# Altium footprint library STMicroelectronics Diode Power Schottky Low VF.PcbLib: 3 footprints
Each footprint in its own frame and in the unit in brackets; x right, y up, seen from the top. Pads: shape width x height; smd on the part's side, far side on the other; paste and mask are expansions set on the pad; w line width, h text height; cw(c..) or ccw(c..) is an arc to the next point about the centre after c.
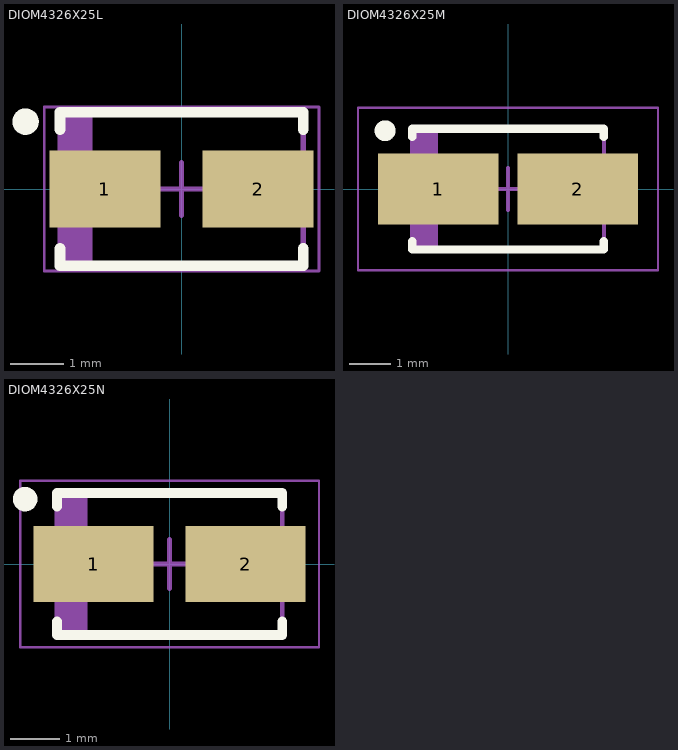
[diagram p0: the footprints below, top view; thin cyan lines are the x and y axes]

## DIOM4326X25L [mm] "Molded Diode, 2-Leads, Body 4.27x2.57mm, IPC High Density"
height 2.45
pads (2):
  rect 2.1x1.45 smd: 1(-1.45,0) 2(1.45,0)
Top Overlay:
  circle w0.25: c-2.95,1.275 r0.125
  lines w0.2: -2.3,-1.125 -2.3,-1.45 2.3,-1.45 2.3,-1.125 ; -2.3,1.125 -2.3,1.45 2.3,1.45 2.3,1.125
Mechanical 13:
  rectangle: -2.3,-1.45 -1.681,1.45
  lines w0.1: -2.3,-1.45 2.3,-1.45 2.3,1.45 -2.3,1.45 -2.3,-1.45
Mechanical 15:
  lines w0.05: -2.6,-1.55 2.6,-1.55 2.6,1.55 -2.6,1.55 -2.6,-1.55
  lines w0.1: -0.5,0 0.5,0 ; 0,-0.5 0,0.5
3D body: height 2.45, standoff 0, extent -2.3,-1.45 2.3,1.45

## DIOM4326X25M [mm] "Molded Diode, 2-Leads, Body 4.27x2.57mm, IPC Low Density"
height 2.45
pads (2):
  rect 2.9x1.7 smd: 1(-1.675,0) 2(1.675,0)
Top Overlay:
  circle w0.25: c-2.95,1.4 r0.125
  lines w0.2: -2.3,-1.25 -2.3,-1.45 2.3,-1.45 2.3,-1.25 ; -2.3,1.25 -2.3,1.45 2.3,1.45 2.3,1.25
Mechanical 13:
  rectangle: -2.3,-1.45 -1.681,1.45
  lines w0.1: -2.3,-1.45 2.3,-1.45 2.3,1.45 -2.3,1.45 -2.3,-1.45
Mechanical 15:
  lines w0.05: -3.6,-1.95 3.6,-1.95 3.6,1.95 -3.6,1.95 -3.6,-1.95
  lines w0.1: -0.5,0 0.5,0 ; 0,-0.5 0,0.5
3D body: height 2.45, standoff 0, extent -2.3,-1.45 2.3,1.45

## DIOM4326X25N [mm] "Molded Diode, 2-Leads, Body 4.27x2.57mm, IPC Medium Density"
height 2.45
pads (2):
  rect 2.45x1.55 smd: 1(-1.55,0) 2(1.55,0)
Top Overlay:
  circle w0.25: c-2.95,1.325 r0.125
  lines w0.2: -2.3,-1.175 -2.3,-1.45 2.3,-1.45 2.3,-1.175 ; -2.3,1.175 -2.3,1.45 2.3,1.45 2.3,1.175
Mechanical 13:
  rectangle: -2.3,-1.45 -1.681,1.45
  lines w0.1: -2.3,-1.45 -2.3,1.45 2.3,1.45 2.3,-1.45 -2.3,-1.45
Mechanical 15:
  lines w0.05: -3.05,-1.7 -3.05,1.7 3.05,1.7 3.05,-1.7 -3.05,-1.7
  lines w0.1: -0.5,0 0.5,0 ; 0,-0.5 0,0.5
3D body: height 2.45, standoff 0, extent -2.3,-1.45 2.3,1.45